# EAGLE library part 6570XX230101_657012230101 (library Wurth_Connectors_WR-MPC5)
WR-MPC5 5.70 mm Male Header Dual Row Right Angled Kind Properties Pitch 5.7 mm Rows Dual Type Right Angled Operating Temperature -40 up to +105 °C Durability 25 Mating cycles Material Properties Insulator Material LCP Insulator Flammability Rating UL94 V-0 Insulator Color Black Pin Material Copper Alloy Pin Plating Tin over Nickel Packaging Properties Packaging Tray Electric Properties IR 26 A Working Voltage 600 V (AC) Withstanding Voltage 2200 V (AC) Contact Resistance 2 mΩ Certification REACh Approval Conform or declared [(EC)1907/2006] RoHS Approval Compliant [2011/65/EU&2015/863] UL Approval E323964 <https://www.we-online.com/components/media/o731517v209%20WR-MPC5_6570xx230101_Multi-parts.jpg> Details see: www.we-online.com/components/products/WR_MPC5_5_70_MM_MALE_HEADER_DUAL_ROW_RIGHT_ANGLED <www.we-online.com/catalog/WR_MPC5_5_70_MM_MALE_HEADER_DUAL_ROW_RIGHT_ANGLED/?utm_source=eagle_model&utm_medium=description_link&utm_campaign=eisos_eagle> Updated by Ella 2023-10-09 2023 (C) Würth Elektronik
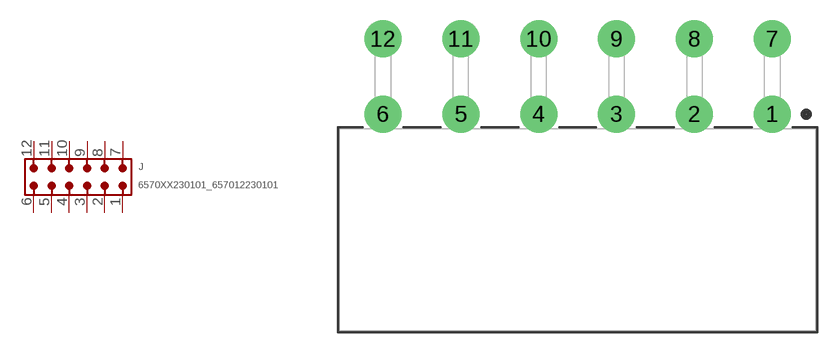
[diagram p14: symbol with the pads of 657012230101; footprint 657012230101]

Designator prefix J

## 6570XX230101_657012230101 (CONTACT-RESISTANCE: 2mOhm; DATASHEET-URL: https://www.we-online.com/redexpert/spec/657012230101?ae; GENDER: Male; IR: 26A; MOUNT: THT; PART-NUMBER: 657012230101; PITCH: 5.7mm; POLARITY: 12; ROWS: Dual; TYPE: Right Angled; VALUE: 657012230101; WORKING-VOLTAGE: 600V (AC))  [657012230101]
1  1  pas
2  2  pas
3  3  pas
4  4  pas
5  5  pas
6  6  pas
7  7  pas
8  8  pas
9  9  pas
10  10  pas
11  11  pas
12  12  pas

## Footprint 657012230101 (pad centres in mm)
WR-MPC5 THT Dual Row Male Header Right Angled THT, 12pins
drill 1.8: 1 14.25,0; 2 8.55,0; 3 2.85,0; 4 -2.85,0; 5 -8.55,0; 6 -14.25,0; 7 14.25,5.5; 8 8.55,5.5; 9 2.85,5.5; 10 -2.85,5.5; 11 -8.55,5.5; 12 -14.25,5.5